# Altium schematic symbol library WE-CST.SchLib: 32 symbols
Pins are listed as number, name and electrical type; pins without a type are passive.

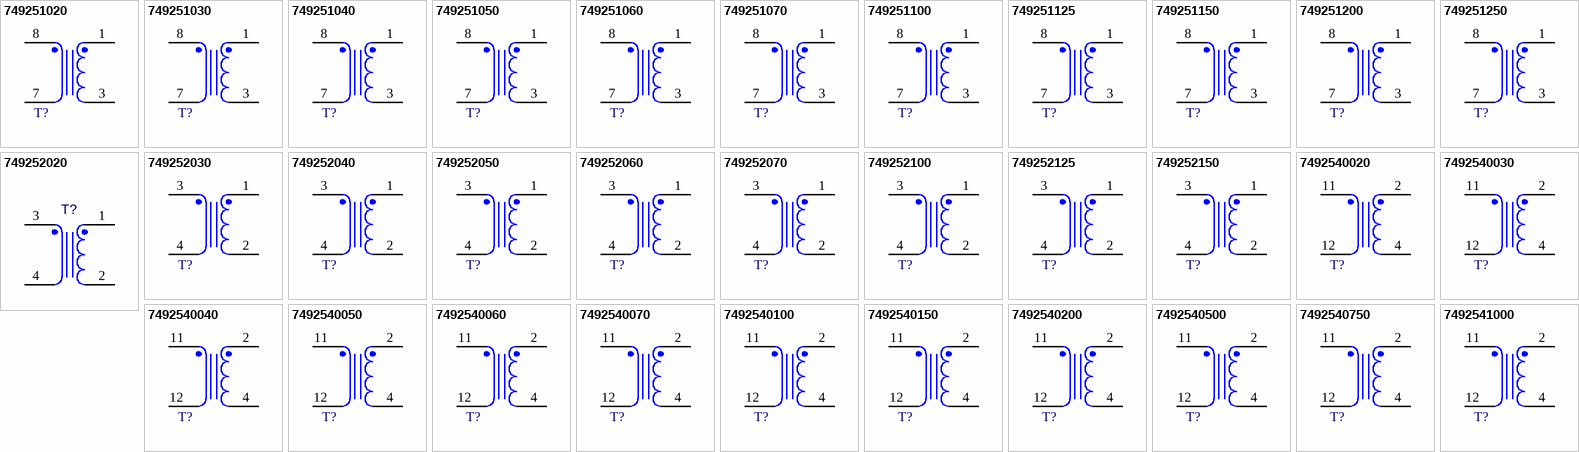
[diagram p0: symbols 749251020 to 7492541000]

## 749251020
designator T?, comment 80uH, 1:20, 80V  (value not drawn)
WE-CST Current Sense Transformer, SMT, EE5, 80uH, 1:20, 80V; Manufacturer Part Number: 749251020; Manufacturer: Wurth Elektronik; DC Resistance 1: 0.75mOhm; DC Resistance 2: 0.2Ohm; Insulation Test Voltage: 500VAC; Rated Current: 20A; Voltage-µSecond: 10uVs; Category: Current Sense Transformers; Match Code: WE-CST; ComponentLink1Description: Website Link; ComponentLink1URL: https://www.we-online.com/redexpert/article/749251020?ad; ComponentLink2Description: Datasheet Link; ComponentLink2URL: https://www.we-online.com/redexpert/spec/749251020?ad; Mount: Surface Mount; Operating Temperature Max: 125°C; Operating Temperature Min: -40°C; Packaging: Tape and Reel; Case/Size Code: EE5; Length: 7.7mm; Width: 6.9mm; Height: 5.33mm; Inductance: 80uH; Rated Voltage: 80V; Turns Ratio: 1:20
footprint WE-CST_EE5
simulation model 749251020
pins: 1, 3, 7, 8

## 749251030
designator T?, comment 180uH, 1:30, 80V  (value not drawn)
WE-CST Current Sense Transformer, SMT, EE5, 180uH, 1:30, 80V; Manufacturer Part Number: 749251030; Manufacturer: Wurth Elektronik; DC Resistance 1: 0.75mOhm; DC Resistance 2: 0.48Ohm; Insulation Test Voltage: 500VAC; Rated Current: 20A; Voltage-µSecond: 15uVs; Category: Current Sense Transformers; Match Code: WE-CST; ComponentLink1Description: Website Link; ComponentLink1URL: https://www.we-online.com/redexpert/article/749251030?ad; ComponentLink2Description: Datasheet Link; ComponentLink2URL: https://www.we-online.com/redexpert/spec/749251030?ad; Mount: Surface Mount; Operating Temperature Max: 125°C; Operating Temperature Min: -40°C; Packaging: Tape and Reel; Case/Size Code: EE5; Length: 7.7mm; Width: 6.9mm; Height: 5.33mm; Inductance: 180uH; Rated Voltage: 80V; Turns Ratio: 1:30
footprint WE-CST_EE5
simulation model 749251030
pins: 1, 3, 7, 8

## 749251040
designator T?, comment 320uH, 1:40, 80V  (value not drawn)
WE-CST Current Sense Transformer, SMT, EE5, 320uH, 1:40, 80V; Manufacturer Part Number: 749251040; Manufacturer: Wurth Elektronik; DC Resistance 1: 0.75mOhm; DC Resistance 2: 0.9Ohm; Insulation Test Voltage: 500VAC; Rated Current: 20A; Voltage-µSecond: 20uVs; Category: Current Sense Transformers; Match Code: WE-CST; ComponentLink1Description: Website Link; ComponentLink1URL: https://www.we-online.com/redexpert/article/749251040?ad; ComponentLink2Description: Datasheet Link; ComponentLink2URL: https://www.we-online.com/redexpert/spec/749251040?ad; Mount: Surface Mount; Operating Temperature Max: 125°C; Operating Temperature Min: -40°C; Packaging: Tape and Reel; Case/Size Code: EE5; Length: 7.7mm; Width: 6.9mm; Height: 5.33mm; Inductance: 320uH; Rated Voltage: 80V; Turns Ratio: 1:40
footprint WE-CST_EE5
simulation model 749251040
pins: 1, 3, 7, 8

## 749251050
designator T?, comment 500uH, 1:50, 80V  (value not drawn)
WE-CST Current Sense Transformer, SMT, EE5, 500uH, 1:50, 80V; Manufacturer Part Number: 749251050; Manufacturer: Wurth Elektronik; DC Resistance 1: 0.75mOhm; DC Resistance 2: 1.4Ohm; Insulation Test Voltage: 500VAC; Rated Current: 20A; Voltage-µSecond: 25uVs; Category: Current Sense Transformers; Match Code: WE-CST; ComponentLink1Description: Website Link; ComponentLink1URL: https://www.we-online.com/redexpert/article/749251050?ad; ComponentLink2Description: Datasheet Link; ComponentLink2URL: https://www.we-online.com/redexpert/spec/749251050?ad; Mount: Surface Mount; Operating Temperature Max: 125°C; Operating Temperature Min: -40°C; Packaging: Tape and Reel; Case/Size Code: EE5; Length: 7.7mm; Width: 6.9mm; Height: 5.33mm; Inductance: 500uH; Rated Voltage: 80V; Turns Ratio: 1:50
footprint WE-CST_EE5
simulation model 749251050
pins: 1, 3, 7, 8

## 749251060
designator T?, comment 720uH, 1:60, 80V  (value not drawn)
WE-CST Current Sense Transformer, SMT, EE5, 720uH, 1:60, 80V; Manufacturer Part Number: 749251060; Manufacturer: Wurth Elektronik; DC Resistance 1: 0.75mOhm; DC Resistance 2: 1.75Ohm; Insulation Test Voltage: 500VAC; Rated Current: 20A; Voltage-µSecond: 30uVs; Category: Current Sense Transformers; Match Code: WE-CST; ComponentLink1Description: Website Link; ComponentLink1URL: https://www.we-online.com/redexpert/article/749251060?ad; ComponentLink2Description: Datasheet Link; ComponentLink2URL: https://www.we-online.com/redexpert/spec/749251060?ad; Mount: Surface Mount; Operating Temperature Max: 125°C; Operating Temperature Min: -40°C; Packaging: Tape and Reel; Case/Size Code: EE5; Length: 7.7mm; Width: 6.9mm; Height: 5.33mm; Inductance: 720uH; Rated Voltage: 80V; Turns Ratio: 1:60
footprint WE-CST_EE5
simulation model 749251060
pins: 1, 3, 7, 8

## 749251070
designator T?, comment 980uH, 1:70, 80V  (value not drawn)
WE-CST Current Sense Transformer, SMT, EE5, 980uH, 1:70, 80V; Manufacturer Part Number: 749251070; Manufacturer: Wurth Elektronik; DC Resistance 1: 0.75mOhm; DC Resistance 2: 2.2Ohm; Insulation Test Voltage: 500VAC; Rated Current: 20A; Voltage-µSecond: 35uVs; Category: Current Sense Transformers; Match Code: WE-CST; ComponentLink1Description: Website Link; ComponentLink1URL: https://www.we-online.com/redexpert/article/749251070?ad; ComponentLink2Description: Datasheet Link; ComponentLink2URL: https://www.we-online.com/redexpert/spec/749251070?ad; Mount: Surface Mount; Operating Temperature Max: 125°C; Operating Temperature Min: -40°C; Packaging: Tape and Reel; Case/Size Code: EE5; Length: 7.7mm; Width: 6.9mm; Height: 5.33mm; Inductance: 980uH; Rated Voltage: 80V; Turns Ratio: 1:70
footprint WE-CST_EE5
simulation model 749251070
pins: 1, 3, 7, 8

## 749251100
designator T?, comment 2000uH, 1:100, 80V  (value not drawn)
WE-CST Current Sense Transformer, SMT, EE5, 2000uH, 1:100, 80V; Manufacturer Part Number: 749251100; Manufacturer: Wurth Elektronik; DC Resistance 1: 0.75mOhm; DC Resistance 2: 5.5Ohm; Insulation Test Voltage: 500VAC; Rated Current: 20A; Voltage-µSecond: 50uVs; Category: Current Sense Transformers; Match Code: WE-CST; ComponentLink1Description: Website Link; ComponentLink1URL: https://www.we-online.com/redexpert/article/749251100?ad; ComponentLink2Description: Datasheet Link; ComponentLink2URL: https://www.we-online.com/redexpert/spec/749251100?ad; Mount: Surface Mount; Operating Temperature Max: 125°C; Operating Temperature Min: -40°C; Packaging: Tape and Reel; Case/Size Code: EE5; Length: 7.7mm; Width: 6.9mm; Height: 5.33mm; Inductance: 2000uH; Rated Voltage: 80V; Turns Ratio: 1:100
footprint WE-CST_EE5
simulation model 749251100
pins: 1, 3, 7, 8

## 749251125
designator T?, comment 3000uH, 1:125, 80V  (value not drawn)
WE-CST Current Sense Transformer, SMT, EE5, 3000uH, 1:125, 80V; Manufacturer Part Number: 749251125; Manufacturer: Wurth Elektronik; DC Resistance 1: 0.75mOhm; DC Resistance 2: 6.5Ohm; Insulation Test Voltage: 500VAC; Rated Current: 20A; Voltage-µSecond: 68uVs; Category: Current Sense Transformers; Match Code: WE-CST; ComponentLink1Description: Website Link; ComponentLink1URL: https://www.we-online.com/redexpert/article/749251125?ad; ComponentLink2Description: Datasheet Link; ComponentLink2URL: https://www.we-online.com/redexpert/spec/749251125?ad; Mount: Surface Mount; Operating Temperature Max: 125°C; Operating Temperature Min: -40°C; Packaging: Tape and Reel; Case/Size Code: EE5; Length: 7.7mm; Width: 6.9mm; Height: 5.33mm; Inductance: 3000uH; Rated Voltage: 80V; Turns Ratio: 1:125
footprint WE-CST_EE5
simulation model 749251125
pins: 1, 3, 7, 8

## 749251150
designator T?, comment 4500uH, 1:150, 80V  (value not drawn)
WE-CST Current Sense Transformer, SMT, EE5, 4500uH, 1:150, 80V; Manufacturer Part Number: 749251150; Manufacturer: Wurth Elektronik; DC Resistance 1: 0.75mOhm; DC Resistance 2: 9.5Ohm; Insulation Test Voltage: 500VAC; Rated Current: 20A; Voltage-µSecond: 75uVs; Category: Current Sense Transformers; Match Code: WE-CST; ComponentLink1Description: Website Link; ComponentLink1URL: https://www.we-online.com/redexpert/article/749251150?ad; ComponentLink2Description: Datasheet Link; ComponentLink2URL: https://www.we-online.com/redexpert/spec/749251150?ad; Mount: Surface Mount; Operating Temperature Max: 125°C; Operating Temperature Min: -40°C; Packaging: Tape and Reel; Case/Size Code: EE5; Length: 7.7mm; Width: 6.9mm; Height: 5.33mm; Inductance: 4500uH; Rated Voltage: 80V; Turns Ratio: 1:150
footprint WE-CST_EE5
simulation model 749251150
pins: 1, 3, 7, 8

## 749251200
designator T?, comment 8000uH, 1:200, 80V  (value not drawn)
WE-CST Current Sense Transformer, SMT, EE5, 8000uH, 1:200, 80V; Manufacturer Part Number: 749251200; Manufacturer: Wurth Elektronik; DC Resistance 1: 0.75mOhm; DC Resistance 2: 16.5Ohm; Insulation Test Voltage: 500VAC; Rated Current: 20A; Voltage-µSecond: 100uVs; Category: Current Sense Transformers; Match Code: WE-CST; ComponentLink1Description: Website Link; ComponentLink1URL: https://www.we-online.com/redexpert/article/749251200?ad; ComponentLink2Description: Datasheet Link; ComponentLink2URL: https://www.we-online.com/redexpert/spec/749251200?ad; Mount: Surface Mount; Operating Temperature Max: 125°C; Operating Temperature Min: -40°C; Packaging: Tape and Reel; Case/Size Code: EE5; Length: 7.7mm; Width: 6.9mm; Height: 5.33mm; Inductance: 8000uH; Rated Voltage: 80V; Turns Ratio: 1:200
footprint WE-CST_EE5
simulation model 749251200
pins: 1, 3, 7, 8

## 749251250
designator T?, comment 12500uH, 1:250, 80V  (value not drawn)
WE-CST Current Sense Transformer, SMT, EE5, 12500uH, 1:250, 80V; Manufacturer Part Number: 749251250; Manufacturer: Wurth Elektronik; DC Resistance 1: 0.75mOhm; DC Resistance 2: 23.5Ohm; Insulation Test Voltage: 500VAC; Rated Current: 20A; Voltage-µSecond: 125uVs; Category: Current Sense Transformers; Match Code: WE-CST; ComponentLink1Description: Website Link; ComponentLink1URL: https://www.we-online.com/redexpert/article/749251250?ad; ComponentLink2Description: Datasheet Link; ComponentLink2URL: https://www.we-online.com/redexpert/spec/749251250?ad; Mount: Surface Mount; Operating Temperature Max: 125°C; Operating Temperature Min: -40°C; Packaging: Tape and Reel; Case/Size Code: EE5; Length: 7.7mm; Width: 6.9mm; Height: 5.33mm; Inductance: 12500uH; Rated Voltage: 80V; Turns Ratio: 1:250
footprint WE-CST_EE5
simulation model 749251250
pins: 1, 3, 7, 8

## 749252020
designator T?, comment 33uH, 1:20, 80V  (value not drawn)
WE-CST Current Sense Transformer, SMT, EE4.4, 33uH, 1:20, 80V; Manufacturer Part Number: 749252020; Manufacturer: Wurth Elektronik; DC Resistance 1: 3mOhm; DC Resistance 2: 0.35Ohm; Insulation Test Voltage: 750VAC; Rated Current: 7A; Voltage-µSecond: 9uVs; Category: Current Sense Transformers; Match Code: WE-CST; ComponentLink1Description: Website Link; ComponentLink1URL: https://www.we-online.com/redexpert/article/749252020?ad; ComponentLink2Description: Datasheet Link; ComponentLink2URL: https://www.we-online.com/redexpert/spec/749252020?ad; Mount: Surface Mount; Operating Temperature Max: 125°C; Operating Temperature Min: -40°C; Packaging: Tape and Reel; Case/Size Code: EE4.4; Length: 4.7mm; Width: 4.65mm; Height: 3.55mm; Inductance: 33uH; Rated Voltage: 80V; Turns Ratio: 1:20
footprint WE-CST_EE4.4
simulation model 749252020
pins: 1, 2, 3, 4

## 749252030
designator T?, comment 74uH, 1:30, 80V  (value not drawn)
WE-CST Current Sense Transformer, SMT, EE4.4, 74uH, 1:30, 80V; Manufacturer Part Number: 749252030; Manufacturer: Wurth Elektronik; DC Resistance 1: 3mOhm; DC Resistance 2: 0.8Ohm; Insulation Test Voltage: 750VAC; Rated Current: 7A; Voltage-µSecond: 13.5uVs; Category: Current Sense Transformers; Match Code: WE-CST; ComponentLink1Description: Website Link; ComponentLink1URL: https://www.we-online.com/redexpert/article/749252030?ad; ComponentLink2Description: Datasheet Link; ComponentLink2URL: https://www.we-online.com/redexpert/spec/749252030?ad; Mount: Surface Mount; Operating Temperature Max: 125°C; Operating Temperature Min: -40°C; Packaging: Tape and Reel; Case/Size Code: EE4.4; Length: 4.7mm; Width: 4.65mm; Height: 3.55mm; Inductance: 74uH; Rated Voltage: 80V; Turns Ratio: 1:30
footprint WE-CST_EE4.4
simulation model 749252030
pins: 1, 2, 3, 4

## 749252040
designator T?, comment 132uH, 1:40, 80V  (value not drawn)
WE-CST Current Sense Transformer, SMT, EE4.4, 132uH, 1:40, 80V; Manufacturer Part Number: 749252040; Manufacturer: Wurth Elektronik; DC Resistance 1: 3mOhm; DC Resistance 2: 1.6Ohm; Insulation Test Voltage: 750VAC; Rated Current: 7A; Voltage-µSecond: 18uVs; Category: Current Sense Transformers; Match Code: WE-CST; ComponentLink1Description: Website Link; ComponentLink1URL: https://www.we-online.com/redexpert/article/749252040?ad; ComponentLink2Description: Datasheet Link; ComponentLink2URL: https://www.we-online.com/redexpert/spec/749252040?ad; Mount: Surface Mount; Operating Temperature Max: 125°C; Operating Temperature Min: -40°C; Packaging: Tape and Reel; Case/Size Code: EE4.4; Length: 4.7mm; Width: 4.65mm; Height: 3.55mm; Inductance: 132uH; Rated Voltage: 80V; Turns Ratio: 1:40
footprint WE-CST_EE4.4
simulation model 749252040
pins: 1, 2, 3, 4

## 749252050
designator T?, comment 205uH, 1:50, 80V  (value not drawn)
WE-CST Current Sense Transformer, SMT, EE4.4, 205uH, 1:50, 80V; Manufacturer Part Number: 749252050; Manufacturer: Wurth Elektronik; DC Resistance 1: 3mOhm; DC Resistance 2: 2.5Ohm; Insulation Test Voltage: 750VAC; Rated Current: 7A; Voltage-µSecond: 22.5uVs; Category: Current Sense Transformers; Match Code: WE-CST; ComponentLink1Description: Website Link; ComponentLink1URL: https://www.we-online.com/redexpert/article/749252050?ad; ComponentLink2Description: Datasheet Link; ComponentLink2URL: https://www.we-online.com/redexpert/spec/749252050?ad; Mount: Surface Mount; Operating Temperature Max: 125°C; Operating Temperature Min: -40°C; Packaging: Tape and Reel; Case/Size Code: EE4.4; Length: 4.7mm; Width: 4.65mm; Height: 3.55mm; Inductance: 205uH; Rated Voltage: 80V; Turns Ratio: 1:50
footprint WE-CST_EE4.4
simulation model 749252050
pins: 1, 2, 3, 4

## 749252060
designator T?, comment 295uH, 1:60, 80V  (value not drawn)
WE-CST Current Sense Transformer, SMT, EE4.4, 295uH, 1:60, 80V; Manufacturer Part Number: 749252060; Manufacturer: Wurth Elektronik; DC Resistance 1: 3mOhm; DC Resistance 2: 3.6Ohm; Insulation Test Voltage: 750VAC; Rated Current: 7A; Voltage-µSecond: 27uVs; Category: Current Sense Transformers; Match Code: WE-CST; ComponentLink1Description: Website Link; ComponentLink1URL: https://www.we-online.com/redexpert/article/749252060?ad; ComponentLink2Description: Datasheet Link; ComponentLink2URL: https://www.we-online.com/redexpert/spec/749252060?ad; Mount: Surface Mount; Operating Temperature Max: 125°C; Operating Temperature Min: -40°C; Packaging: Tape and Reel; Case/Size Code: EE4.4; Length: 4.7mm; Width: 4.65mm; Height: 3.55mm; Inductance: 295uH; Rated Voltage: 80V; Turns Ratio: 1:60
footprint WE-CST_EE4.4
simulation model 749252060
pins: 1, 2, 3, 4

## 749252070
designator T?, comment 400uH, 1:70, 80V  (value not drawn)
WE-CST Current Sense Transformer, SMT, EE4.4, 400uH, 1:70, 80V; Manufacturer Part Number: 749252070; Manufacturer: Wurth Elektronik; DC Resistance 1: 3mOhm; DC Resistance 2: 4.6Ohm; Insulation Test Voltage: 750VAC; Rated Current: 7A; Voltage-µSecond: 31.5uVs; Category: Current Sense Transformers; Match Code: WE-CST; ComponentLink1Description: Website Link; ComponentLink1URL: https://www.we-online.com/redexpert/article/749252070?ad; ComponentLink2Description: Datasheet Link; ComponentLink2URL: https://www.we-online.com/redexpert/spec/749252070?ad; Mount: Surface Mount; Operating Temperature Max: 125°C; Operating Temperature Min: -40°C; Packaging: Tape and Reel; Case/Size Code: EE4.4; Length: 4.7mm; Width: 4.65mm; Height: 3.55mm; Inductance: 400uH; Rated Voltage: 80V; Turns Ratio: 1:70
footprint WE-CST_EE4.4
simulation model 749252070
pins: 1, 2, 3, 4

## 749252100
designator T?, comment 820uH, 1:100, 80V  (value not drawn)
WE-CST Current Sense Transformer, SMT, EE4.4, 820uH, 1:100, 80V; Manufacturer Part Number: 749252100; Manufacturer: Wurth Elektronik; DC Resistance 1: 3mOhm; DC Resistance 2: 9.5Ohm; Insulation Test Voltage: 750VAC; Rated Current: 7A; Voltage-µSecond: 45uVs; Category: Current Sense Transformers; Match Code: WE-CST; ComponentLink1Description: Website Link; ComponentLink1URL: https://www.we-online.com/redexpert/article/749252100?ad; ComponentLink2Description: Datasheet Link; ComponentLink2URL: https://www.we-online.com/redexpert/spec/749252100?ad; Mount: Surface Mount; Operating Temperature Max: 125°C; Operating Temperature Min: -40°C; Packaging: Tape and Reel; Case/Size Code: EE4.4; Length: 4.7mm; Width: 4.65mm; Height: 3.55mm; Inductance: 820uH; Rated Voltage: 80V; Turns Ratio: 1:100
footprint WE-CST_EE4.4
simulation model 749252100
pins: 1, 2, 3, 4

## 749252125
designator T?, comment 1280uH, 1:125, 80V  (value not drawn)
WE-CST Current Sense Transformer, SMT, EE4.4, 1280uH, 1:125, 80V; Manufacturer Part Number: 749252125; Manufacturer: Wurth Elektronik; DC Resistance 1: 3mOhm; DC Resistance 2: 13Ohm; Insulation Test Voltage: 750VAC; Rated Current: 7A; Voltage-µSecond: 56.2uVs; Category: Current Sense Transformers; Match Code: WE-CST; ComponentLink1Description: Website Link; ComponentLink1URL: https://www.we-online.com/redexpert/article/749252125?ad; ComponentLink2Description: Datasheet Link; ComponentLink2URL: https://www.we-online.com/redexpert/spec/749252125?ad; Mount: Surface Mount; Operating Temperature Max: 125°C; Operating Temperature Min: -40°C; Packaging: Tape and Reel; Case/Size Code: EE4.4; Length: 4.7mm; Width: 4.65mm; Height: 3.55mm; Inductance: 1280uH; Rated Voltage: 80V; Turns Ratio: 1:125
footprint WE-CST_EE4.4
simulation model 749252125
pins: 1, 2, 3, 4

## 749252150
designator T?, comment 1800uH, 1:150, 80V  (value not drawn)
WE-CST Current Sense Transformer, SMT, EE4.4, 1800uH, 1:150, 80V; Manufacturer Part Number: 749252150; Manufacturer: Wurth Elektronik; DC Resistance 1: 3mOhm; DC Resistance 2: 21Ohm; Insulation Test Voltage: 750VAC; Rated Current: 7A; Voltage-µSecond: 67.5uVs; Category: Current Sense Transformers; Match Code: WE-CST; ComponentLink1Description: Website Link; ComponentLink1URL: https://www.we-online.com/redexpert/article/749252150?ad; ComponentLink2Description: Datasheet Link; ComponentLink2URL: https://www.we-online.com/redexpert/spec/749252150?ad; Mount: Surface Mount; Operating Temperature Max: 125°C; Operating Temperature Min: -40°C; Packaging: Tape and Reel; Case/Size Code: EE4.4; Length: 4.7mm; Width: 4.65mm; Height: 3.55mm; Inductance: 1800uH; Rated Voltage: 80V; Turns Ratio: 1:150
footprint WE-CST_EE4.4
simulation model 749252150
pins: 1, 2, 3, 4

## 7492540020
designator T?, comment 224uH, 1:20, 80V  (value not drawn)
WE-CST Current Sense Transformer, SMT, EE13/7/4, 224uH, 1:20, 80V; Manufacturer Part Number: 7492540020; Manufacturer: Wurth Elektronik; DC Resistance 1: 0.28mOhm; DC Resistance 2: 0.033Ohm; Insulation Test Voltage: 1500VAC; Rated Current: 40A; Voltage-µSecond: 49uVs; Category: Current Sense Transformers; Match Code: WE-CST; ComponentLink1Description: Website Link; ComponentLink1URL: https://www.we-online.com/redexpert/article/7492540020?ad; ComponentLink2Description: Datasheet Link; ComponentLink2URL: https://www.we-online.com/redexpert/spec/7492540020?ad; Mount: Surface Mount; Operating Temperature Max: 130°C; Operating Temperature Min: -40°C; Packaging: Tape and Reel; Case/Size Code: EE13/7/4; Length: 20.2mm; Width: 14.48mm; Height: 10.5mm; Inductance: 224uH; Rated Voltage: 80V; Turns Ratio: 1:20
footprint WE-CST_EE13/7/4
simulation model 7492540020
pins: 2, 4, 11, 12

## 7492540030
designator T?, comment 504uH, 1:30, 80V  (value not drawn)
WE-CST Current Sense Transformer, SMT, EE13/7/4, 504uH, 1:30, 80V; Manufacturer Part Number: 7492540030; Manufacturer: Wurth Elektronik; DC Resistance 1: 0.28mOhm; DC Resistance 2: 0.093Ohm; Insulation Test Voltage: 1500VAC; Rated Current: 40A; Voltage-µSecond: 74uVs; Category: Current Sense Transformers; Match Code: WE-CST; ComponentLink1Description: Website Link; ComponentLink1URL: https://www.we-online.com/redexpert/article/7492540030?ad; ComponentLink2Description: Datasheet Link; ComponentLink2URL: https://www.we-online.com/redexpert/spec/7492540030?ad; Mount: Surface Mount; Operating Temperature Max: 130°C; Operating Temperature Min: -40°C; Packaging: Tape and Reel; Case/Size Code: EE13/7/4; Length: 20.2mm; Width: 14.48mm; Height: 10.5mm; Inductance: 504uH; Rated Voltage: 80V; Turns Ratio: 1:30
footprint WE-CST_EE13/7/4
simulation model 7492540030
pins: 2, 4, 11, 12

## 7492540040
designator T?, comment 896uH, 1:40, 80V  (value not drawn)
WE-CST Current Sense Transformer, SMT, EE13/7/4, 896uH, 1:40, 80V; Manufacturer Part Number: 7492540040; Manufacturer: Wurth Elektronik; DC Resistance 1: 0.28mOhm; DC Resistance 2: 0.13Ohm; Insulation Test Voltage: 1500VAC; Rated Current: 40A; Voltage-µSecond: 99uVs; Category: Current Sense Transformers; Match Code: WE-CST; ComponentLink1Description: Website Link; ComponentLink1URL: https://www.we-online.com/redexpert/article/7492540040?ad; ComponentLink2Description: Datasheet Link; ComponentLink2URL: https://www.we-online.com/redexpert/spec/7492540040?ad; Mount: Surface Mount; Operating Temperature Max: 130°C; Operating Temperature Min: -40°C; Packaging: Tape and Reel; Case/Size Code: EE13/7/4; Length: 20.2mm; Width: 14.48mm; Height: 10.5mm; Inductance: 896uH; Rated Voltage: 80V; Turns Ratio: 1:40
footprint WE-CST_EE13/7/4
simulation model 7492540040
pins: 2, 4, 11, 12

## 7492540050
designator T?, comment 1400uH, 1:50, 80V  (value not drawn)
WE-CST Current Sense Transformer, SMT, EE13/7/4, 1400uH, 1:50, 80V; Manufacturer Part Number: 7492540050; Manufacturer: Wurth Elektronik; DC Resistance 1: 0.28mOhm; DC Resistance 2: 0.202Ohm; Insulation Test Voltage: 1500VAC; Rated Current: 40A; Voltage-µSecond: 124uVs; Category: Current Sense Transformers; Match Code: WE-CST; ComponentLink1Description: Website Link; ComponentLink1URL: https://www.we-online.com/redexpert/article/7492540050?ad; ComponentLink2Description: Datasheet Link; ComponentLink2URL: https://www.we-online.com/redexpert/spec/7492540050?ad; Mount: Surface Mount; Operating Temperature Max: 130°C; Operating Temperature Min: -40°C; Packaging: Tape and Reel; Case/Size Code: EE13/7/4; Length: 20.2mm; Width: 14.48mm; Height: 10.5mm; Inductance: 1400uH; Rated Voltage: 80V; Turns Ratio: 1:50
footprint WE-CST_EE13/7/4
simulation model 7492540050
pins: 2, 4, 11, 12

## 7492540060
designator T?, comment 2000uH, 1:60, 80V  (value not drawn)
WE-CST Current Sense Transformer, SMT, EE13/7/4, 2000uH, 1:60, 80V; Manufacturer Part Number: 7492540060; Manufacturer: Wurth Elektronik; DC Resistance 1: 0.28mOhm; DC Resistance 2: 0.305Ohm; Insulation Test Voltage: 1500VAC; Rated Current: 40A; Voltage-µSecond: 148uVs; Category: Current Sense Transformers; Match Code: WE-CST; ComponentLink1Description: Website Link; ComponentLink1URL: https://www.we-online.com/redexpert/article/7492540060?ad; ComponentLink2Description: Datasheet Link; ComponentLink2URL: https://www.we-online.com/redexpert/spec/7492540060?ad; Mount: Surface Mount; Operating Temperature Max: 130°C; Operating Temperature Min: -40°C; Packaging: Tape and Reel; Case/Size Code: EE13/7/4; Length: 20.2mm; Width: 14.48mm; Height: 10.5mm; Inductance: 2000uH; Rated Voltage: 80V; Turns Ratio: 1:60
footprint WE-CST_EE13/7/4
simulation model 7492540060
pins: 2, 4, 11, 12

## 7492540070
designator T?, comment 2740uH, 1:70, 80V  (value not drawn)
WE-CST Current Sense Transformer, SMT, EE13/7/4, 2740uH, 1:70, 80V; Manufacturer Part Number: 7492540070; Manufacturer: Wurth Elektronik; DC Resistance 1: 0.28mOhm; DC Resistance 2: 0.367Ohm; Insulation Test Voltage: 1500VAC; Rated Current: 40A; Voltage-µSecond: 173uVs; Category: Current Sense Transformers; Match Code: WE-CST; ComponentLink1Description: Website Link; ComponentLink1URL: https://www.we-online.com/redexpert/article/7492540070?ad; ComponentLink2Description: Datasheet Link; ComponentLink2URL: https://www.we-online.com/redexpert/spec/7492540070?ad; Mount: Surface Mount; Operating Temperature Max: 130°C; Operating Temperature Min: -40°C; Packaging: Tape and Reel; Case/Size Code: EE13/7/4; Length: 20.2mm; Width: 14.48mm; Height: 10.5mm; Inductance: 2740uH; Rated Voltage: 80V; Turns Ratio: 1:70
footprint WE-CST_EE13/7/4
simulation model 7492540070
pins: 2, 4, 11, 12

## 7492540100
designator T?, comment 5600uH, 1:100, 80V  (value not drawn)
WE-CST Current Sense Transformer, SMT, EE13/7/4, 5600uH, 1:100, 80V; Manufacturer Part Number: 7492540100; Manufacturer: Wurth Elektronik; DC Resistance 1: 0.28mOhm; DC Resistance 2: 0.805Ohm; Insulation Test Voltage: 1500VAC; Rated Current: 40A; Voltage-µSecond: 248uVs; Category: Current Sense Transformers; Match Code: WE-CST; ComponentLink1Description: Website Link; ComponentLink1URL: https://www.we-online.com/redexpert/article/7492540100?ad; ComponentLink2Description: Datasheet Link; ComponentLink2URL: https://www.we-online.com/redexpert/spec/7492540100?ad; Mount: Surface Mount; Operating Temperature Max: 130°C; Operating Temperature Min: -40°C; Packaging: Tape and Reel; Case/Size Code: EE13/7/4; Length: 20.2mm; Width: 14.48mm; Height: 10.5mm; Inductance: 5600uH; Rated Voltage: 80V; Turns Ratio: 1:100
footprint WE-CST_EE13/7/4
simulation model 7492540100
pins: 2, 4, 11, 12

## 7492540150
designator T?, comment 12600uH, 1:150, 80V  (value not drawn)
WE-CST Current Sense Transformer, SMT, EE13/7/4, 12600uH, 1:150, 80V; Manufacturer Part Number: 7492540150; Manufacturer: Wurth Elektronik; DC Resistance 1: 0.28mOhm; DC Resistance 2: 1.9Ohm; Insulation Test Voltage: 1500VAC; Rated Current: 40A; Voltage-µSecond: 372uVs; Category: Current Sense Transformers; Match Code: WE-CST; ComponentLink1Description: Website Link; ComponentLink1URL: https://www.we-online.com/redexpert/article/7492540150?ad; ComponentLink2Description: Datasheet Link; ComponentLink2URL: https://www.we-online.com/redexpert/spec/7492540150?ad; Mount: Surface Mount; Operating Temperature Max: 130°C; Operating Temperature Min: -40°C; Packaging: Tape and Reel; Case/Size Code: EE13/7/4; Length: 20.2mm; Width: 14.48mm; Height: 10.5mm; Inductance: 12600uH; Rated Voltage: 80V; Turns Ratio: 1:150
footprint WE-CST_EE13/7/4
simulation model 7492540150
pins: 2, 4, 11, 12

## 7492540200
designator T?, comment 22400uH, 1:200, 80V  (value not drawn)
WE-CST Current Sense Transformer, SMT, EE13/7/4, 22400uH, 1:200, 80V; Manufacturer Part Number: 7492540200; Manufacturer: Wurth Elektronik; DC Resistance 1: 0.28mOhm; DC Resistance 2: 2.63Ohm; Insulation Test Voltage: 1500VAC; Rated Current: 40A; Voltage-µSecond: 496uVs; Category: Current Sense Transformers; Match Code: WE-CST; ComponentLink1Description: Website Link; ComponentLink1URL: https://www.we-online.com/redexpert/article/7492540200?ad; ComponentLink2Description: Datasheet Link; ComponentLink2URL: https://www.we-online.com/redexpert/spec/7492540200?ad; Mount: Surface Mount; Operating Temperature Max: 130°C; Operating Temperature Min: -40°C; Packaging: Tape and Reel; Case/Size Code: EE13/7/4; Length: 20.2mm; Width: 14.48mm; Height: 10.5mm; Inductance: 22400uH; Rated Voltage: 80V; Turns Ratio: 1:200
footprint WE-CST_EE13/7/4
simulation model 7492540200
pins: 2, 4, 11, 12

## 7492540500
designator T?, comment 135000uH, 1:500, 80V  (value not drawn)
WE-CST Current Sense Transformer, SMT, EE13/7/4, 135000uH, 1:500, 80V; Manufacturer Part Number: 7492540500; Manufacturer: Wurth Elektronik; DC Resistance 1: 0.28mOhm; DC Resistance 2: 21.2Ohm; Insulation Test Voltage: 1500VAC; Rated Current: 40A; Voltage-µSecond: 1240uVs; Category: Current Sense Transformers; Match Code: WE-CST; ComponentLink1Description: Website Link; ComponentLink1URL: https://www.we-online.com/redexpert/article/7492540500?ad; ComponentLink2Description: Datasheet Link; ComponentLink2URL: https://www.we-online.com/redexpert/spec/7492540500?ad; Mount: Surface Mount; Operating Temperature Max: 130°C; Operating Temperature Min: -40°C; Packaging: Tape and Reel; Case/Size Code: EE13/7/4; Length: 20.2mm; Width: 14.48mm; Height: 10.5mm; Inductance: 135000uH; Rated Voltage: 80V; Turns Ratio: 1:500
footprint WE-CST_EE13/7/4
simulation model 7492540500
pins: 2, 4, 11, 12

## 7492540750
designator T?, comment 300000uH, 1:750, 80V  (value not drawn)
WE-CST Current Sense Transformer, SMT, EE13/7/4, 300000uH, 1:750, 80V; Manufacturer Part Number: 7492540750; Manufacturer: Wurth Elektronik; DC Resistance 1: 0.28mOhm; DC Resistance 2: 50.1Ohm; Insulation Test Voltage: 1500VAC; Rated Current: 40A; Voltage-µSecond: 1860uVs; Category: Current Sense Transformers; Match Code: WE-CST; ComponentLink1Description: Website Link; ComponentLink1URL: https://www.we-online.com/redexpert/article/7492540750?ad; ComponentLink2Description: Datasheet Link; ComponentLink2URL: https://www.we-online.com/redexpert/spec/7492540750?ad; Mount: Surface Mount; Operating Temperature Max: 130°C; Operating Temperature Min: -40°C; Packaging: Tape and Reel; Case/Size Code: EE13/7/4; Length: 20.2mm; Width: 14.48mm; Height: 10.5mm; Inductance: 300000uH; Rated Voltage: 80V; Turns Ratio: 1:750
footprint WE-CST_EE13/7/4
simulation model 7492540750
pins: 2, 4, 11, 12

## 7492541000
designator T?, comment 540000uH, 1:1000, 80V  (value not drawn)
WE-CST Current Sense Transformer, SMT, EE13/7/4, 540000uH, 1:1000, 80V; Manufacturer Part Number: 7492541000; Manufacturer: Wurth Elektronik; DC Resistance 1: 0.28mOhm; DC Resistance 2: 87.64Ohm; Insulation Test Voltage: 1500VAC; Rated Current: 40A; Voltage-µSecond: 2480uVs; Category: Current Sense Transformers; Match Code: WE-CST; ComponentLink1Description: Website Link; ComponentLink1URL: https://www.we-online.com/redexpert/article/7492541000?ad; ComponentLink2Description: Datasheet Link; ComponentLink2URL: https://www.we-online.com/redexpert/spec/7492541000?ad; Mount: Surface Mount; Operating Temperature Max: 130°C; Operating Temperature Min: -40°C; Packaging: Tape and Reel; Case/Size Code: EE13/7/4; Length: 20.2mm; Width: 14.48mm; Height: 10.5mm; Inductance: 540000uH; Rated Voltage: 80V; Turns Ratio: 1:1000
footprint WE-CST_EE13/7/4
simulation model 7492541000
pins: 2, 4, 11, 12